# EAGLE library part 6871XX182122_687134182122 (library WR-FPC)
WR-FPC 0.50 mm SMT ZIF Horizontal Dual Contact KIND PROPERTIES Pitch 0.5 mm MATERIAL PROPERTIES Insulator Material LCP Contact Material Phosphor Bronze Contact Plating 80 (µ") Tin over 50 (µ") Nickel Contact Type Stamped Solder Tabs Brass <https://www.we-online.com/catalog/media/o73336v209%20Family_WR-FPC_687186182122.jpg> Details see: https://www.we-online.com/catalog/en/FPC_0_5_SMT_ZIF_HORIZONTAL_DUAL_CONTACT_BACK_LOCKING_6871XX182122/ Updated by Ella Wu 2020-08-26 2020(C) Wurth Elektronik
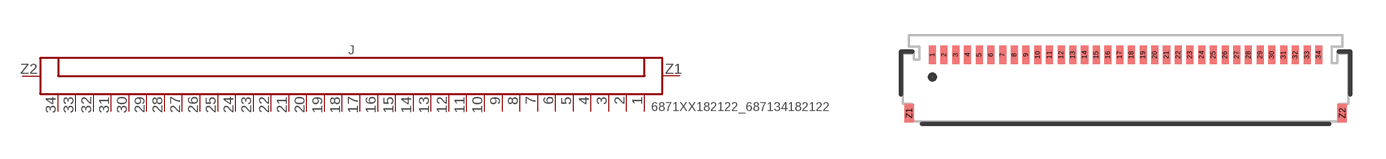
[diagram p214: symbol with the pads of 687134182122; footprint 687134182122]

Designator prefix J

## 6871XX182122_687134182122 (CONTACT-RESISTANCE: 30Ohm; DATASHEET-URL: https://www.we-online.com/catalog/datasheet/687134182122.pdf; IR: 0.5A; L: 19mm; PACKAGING: Tape and Reel; PART-NUMBER: 687134182122; PINS: 34; PITCH: 0.5mm; TYPE: Horizontal; VALUE: 687134182122; WORKING-VOLTAGE: 50V(AC))  [687134182122]
1  1  pas
2  2  pas
3  3  pas
4  4  pas
5  5  pas
6  6  pas
7  7  pas
8  8  pas
9  9  pas
10  10  pas
11  11  pas
12  12  pas
13  13  pas
14  14  pas
15  15  pas
16  16  pas
17  17  pas
18  18  pas
19  19  pas
20  20  pas
21  21  pas
22  22  pas
23  23  pas
24  24  pas
25  25  pas
26  26  pas
27  27  pas
28  28  pas
29  29  pas
30  30  pas
31  31  pas
32  32  pas
33  33  pas
34  34  pas
Z1  Z1  pas
Z2  Z2  pas

## Footprint 687134182122 (pad centres in mm)
WR-FPC 0.50 mm SMT ZIF Horizontal Dual Contact ,34Pins
smd 0.3 x 0.8: 1 -8.25,1.4; 2 -7.75,1.4; 3 -7.25,1.4; 4 -6.75,1.4; 5 -6.25,1.4; 6 -5.75,1.4; 7 -5.25,1.4; 8 -4.75,1.4; 9 -4.25,1.4; 10 -3.75,1.4; 11 -3.25,1.4; 12 -2.75,1.4; 13 -2.25,1.4; 14 -1.75,1.4; 15 -1.25,1.4; 16 -0.75,1.4; 17 -0.25,1.4; 18 0.25,1.4; 19 0.75,1.4; 20 1.25,1.4; 21 1.75,1.4; 22 2.25,1.4; 23 2.75,1.4; 24 3.25,1.4; 25 3.75,1.4; 26 4.25,1.4; 27 4.75,1.4; 28 5.25,1.4; 29 5.75,1.4; 30 6.25,1.4; 31 6.75,1.4; 32 7.25,1.4; 33 7.75,1.4; 34 8.25,1.4
smd 0.4 x 0.8: Z1 -9.25,-1.1; Z2 9.25,-1.1